# Altium schematic symbol library SimpleFlashlight.SCHLIB: 7 symbols
Pins are listed as number, name and electrical type; pins without a type are passive.

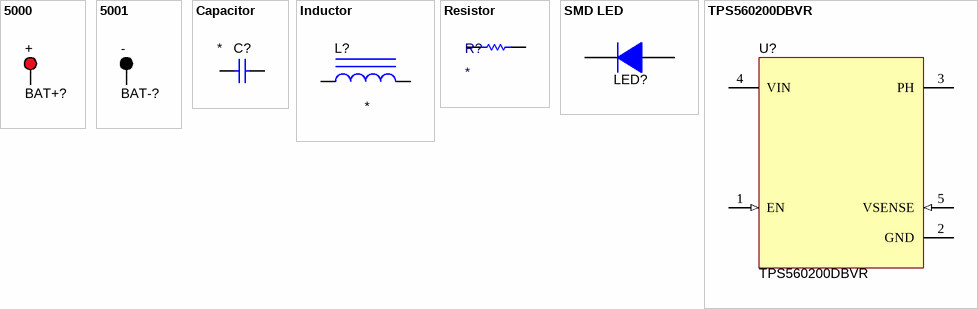
[diagram p0: symbols 5000 to TPS560200DBVR]

## 5000
designator BAT+?, comment +  (no BOM)
Power connection pad; CompType: Test Point Loop; ComponentLink1Description: Datasheet Link; ComponentLink1URL: http://www.keyelco.com/userAssets/file/M60-2p60.pdf; Value: +
footprint KEYSTONE5000
pins: 1

## 5001
designator BAT-?, comment -  (no BOM)
Power connection pad; CompType: Test Point Loop; ComponentLink1Description: Datasheet Link; ComponentLink1URL: http://www.keyelco.com/userAssets/file/M60-2p60.pdf; Value: -
footprint KEYSTONE5000
pins: 1

## Capacitor
designator C?
Capacitor ceramic; Manufacturer: MuRata; Value: *; ComponentLink1Description: Datasheet link; ComponentLink1URL: http://search.murata.co.jp/Ceramy/PnsearchViewAction.do?HnOFG=ON&HnNFG=ON&SEL_CNT=50&sLang=en&sKey=GRM188R71C105KA12D&x=9&y=9&search=startwith
signal-integrity model Cap
simulation model Cap
footprint 0603
footprint 1206
pins: 1, 2

## Inductor
designator L?
Inductor, Unshielded Drum Core, Metal Composite, SMD; Value: *; ComponentLink1Description: Datasheet link; ComponentLink1URL: http://katalog.we-online.de/kataloge/eisos/media/pdf/744778510.pdf
signal-integrity model Inductor
simulation model Inductor
footprint WE-PD_6033
pins: 1, 2

## Resistor
designator R?
Thick Film Chip Resistor; ComponentLink1Description: Manufacturer Link; ComponentLink1URL: http://www.panasonic.com/industrial/components/resistive_products.htm; ComponentLink2Description: Datasheet; ComponentLink2URL: http://www.panasonic.com/industrial/components/pdf/AOA0000CE2.pdf; Value: *; Order_Code_ChipIDip: *; Manufacturer Part Number: *; Manufacturer: *
footprint 0805_HV
simulation model RESISTOR (Resistor)
signal-integrity model Res
pins: 1, 2

## SMD LED
designator LED?, comment CLA2A-WKW-CXbZ0153  (value not drawn)
SMD LED; Manufacturer: Cree; Order_Code_ChipIDip: 9000105413; Manufacturer Part Number: CLA2A-WKW-CXbZ0153; Value: CLA2A-WKW-CXbZ0153; Type: SMD LED; ComponentLink1Description: Datasheet link; ComponentLink1URL: http://www.vishay.com/docs/88516/1n5400.pdf
signal-integrity model Diode
footprint LED 2835
pins: 1 A, 2 K

## TPS560200DBVR
designator U?
4.5V to 18V Input, 500mA Synchronous Step Down SWIFT Converter with Advanced Eco-mode, DBV0005A; Manufacturer: Texas Instruments; Order_Code_ChipIDip: 9000200421; Manufacturer Part Number: TPS560200DBVR; PackageReference: DBV0005A; ComponentLink1Description: Datasheet Link; ComponentLink1URL: http://www.ti.com/lit/ds/symlink/tps560200.pdf; Value: TPS560200DBVR
footprint DBV0005A_N
pins: 1 EN (in), 2 GND (power), 3 PH (power), 4 VIN (power), 5 VSENSE (in)
2 alternate drawings of the same symbol